# Altium integrated library LM2575-5P0BU.IntLib: 1 symbol
Pins are listed as number, name and electrical type; pins without a type are passive.

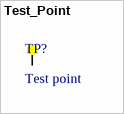
[diagram p0: symbol Test_Point]

## Test_Point
designator TP?, comment Test point
Value: Test point
footprint Test_point (TestPoint)
pins: TP? Test Point